# EAGLE library part BQ28Z610 (library My_TI)
BQ28Z610 Impedance Track™ Gas Gauge and Protection Solution for 1-Series to 2-Series Cell Li-Ion Battery Packs. • Cell Balancing with Internal Bypass To Optimize Battery Health. • High-Side Protection N-CH FET Drive Allows Serial Bus Communication During Fault Conditions. • Programmable Protection Levels for Voltage, Current, and Temperature. Datasheet <http://www.ti.com/lit/ds/symlink/bq28z610.pdf>
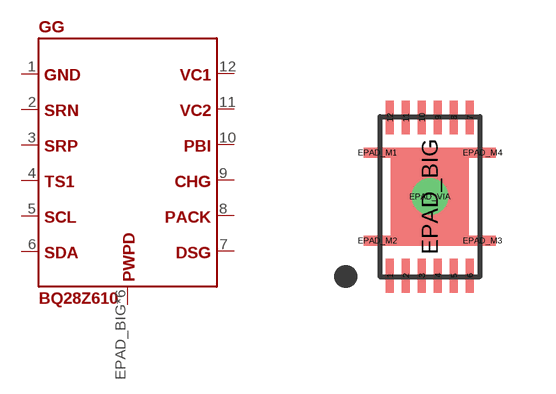
[diagram p34: symbol with the pads of VSON12; footprint VSON12]

Designator prefix GG

## BQ28Z610  [VSON12]
1  P$1
2  P$2
3  P$3
4  P$4
5  P$5
6  P$6
7  P$7
8  P$8
9  P$9
10  P$10
11  P$11
12  P$12
EPAD_BIG  P$13
EPAD_M1  P$13
EPAD_M2  P$13
EPAD_M3  P$13
EPAD_M4  P$13
EPAD_VIA  P$13

## Footprint VSON12 (pad centres in mm)
smd 0.2 x 0.85: 1 -1,-1.975; 2 -0.6,-1.975; 3 -0.2,-1.975; 4 0.2,-1.975; 5 0.6,-1.975; 6 1,-1.975; 7 1,1.975; 8 0.6,1.975; 9 0.2,1.975; 10 -0.2,1.975; 11 -0.6,1.975; 12 -1,1.975
smd 1.95 x 2.45: EPAD_BIG 0,0
smd 0.675 x 0.25: EPAD_M1 -1.312,1.1; EPAD_M2 -1.312,-1.1; EPAD_M3 1.312,-1.1; EPAD_M4 1.312,1.1
drill 0.4: EPAD_VIA 0,0